# EAGLE library part EB-5365RE (library PonLib)
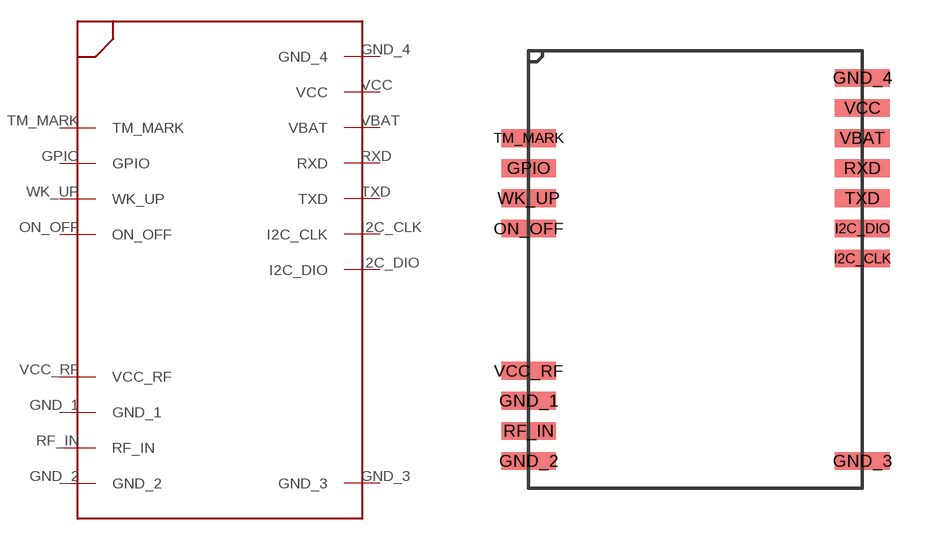
[diagram p14: symbol with the pads of EB-5365RE; footprint EB-5365RE]

Designator prefix -

## EB-5365RE  [EB-5365RE]
GND_1  GND_1
GND_2  GND_2
GND_3  GND_3
GND_4  GND_4
GPIO  GPIO
I2C_CLK  I2C_CLK
I2C_DIO  I2C_DIO
ON_OFF  ON_OFF
RF_IN  RF_IN
RXD  RXD
TM_MARK  TM_MARK
TXD  TXD
VBAT  VBAT
VCC  VCC
VCC_RF  VCC_RF
WK_UP  WK_UP

## Footprint EB-5365RE (pad centres in mm)
smd 2 x 0.65: GND_1 -6.1,-4.8; GND_2 -6.1,-7; GND_3 6.1,-7; GND_4 6.1,7; GPIO -6.1,3.7; I2C_CLK 6.1,0.4; I2C_DIO 6.1,1.5; ON_OFF -6.1,1.5; RF_IN -6.1,-5.9; RXD 6.1,3.7; TM_MARK -6.1,4.8; TXD 6.1,2.6; VBAT 6.1,4.8; VCC 6.1,5.9; VCC_RF -6.1,-3.7; WK_UP -6.1,2.6